# Altium footprint library PCB - POWER - NXJ2-24V.PCBLIB: 1 footprints
Each footprint in its own frame and in the unit in brackets; x right, y up, seen from the top. Pads: shape width x height; smd on the part's side, far side on the other; paste and mask are expansions set on the pad; w line width, h text height; cw(c..) or ccw(c..) is an arc to the next point about the centre after c.
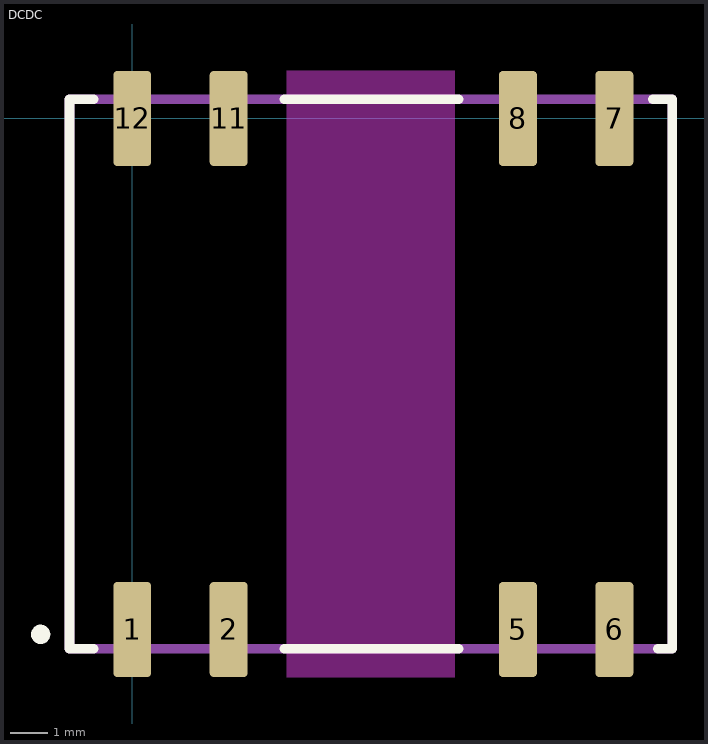
[diagram p0: the footprint, top view; thin cyan lines are the x and y axes]

## DCDC [mm]
pads (8):
  rrect20% 1x2.5 smd: 1(0,-13.46) 2(2.54,-13.46) 5(10.16,-13.46) 6(12.7,-13.46) 7(12.7,0) 8(10.16,0) 11(2.54,0) 12(0,0)
Top Overlay:
  circle w0.254: c-2.413,-13.589 r0.127
  lines w0.254: -1.016,-13.97 -1.651,-13.97 -1.651,0.508 -1.016,0.508 ; 4,-13.97 8.6,-13.97 ; 4,0.508 8.6,0.508 ; 13.716,0.508 14.224,0.508 14.224,-10.922 14.224,-13.97 13.843,-13.97
Keep-Out Layer:
  rectangle: 4.064,-14.732 8.509,1.27
Top Assembly:
  lines w0.254: -1.651,-13.97 14.224,-13.97 14.224,0.508 -1.651,0.508 -1.651,-13.97
3D body "mps_dcdc_nxj2_24v_mc_a.step": height 4.23, standoff -0.18, extent -1.651,-13.897 14.351,0.581